# Altium integrated library SN74AVC4T245RSVR.IntLib: 1 symbol
Pins are listed as number, name and electrical type; pins without a type are passive.

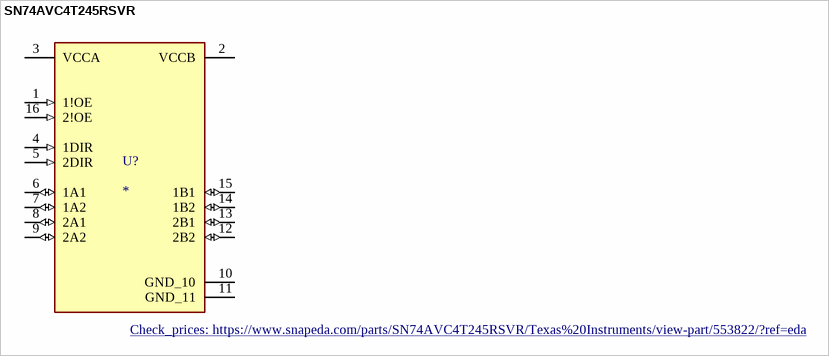
[diagram p0: symbol SN74AVC4T245RSVR]

## SN74AVC4T245RSVR
designator U?
4-Bit Dual-Supply Bus Transceiver with Configurable Voltage-Level Shifting and 3-State Outputs 16-UQFN -40 to 85; MF: Texas Instruments; MP: SN74AVC4T245RSVR; Purchase-URL: https://pricing.snapeda.com/search/part/SN74AVC4T245RSVR/?ref=eda; Price: None; SnapEDA_Link: https://www.snapeda.com/parts/SN74AVC4T245RSVR/Texas%20Instruments/view-part/553822/?ref=snap; Package: UQFN-16 Texas Instruments; Availability: Good; Value: *; Check_prices: https://www.snapeda.com/parts/SN74AVC4T245RSVR/Texas%20Instruments/view-part/553822/?ref=eda
footprint QFN40P260X180X55-16N
pins: 1 1!OE (in), 2 VCCB (power), 3 VCCA (power), 4 1DIR (in), 5 2DIR (in), 6 1A1 (io), 7 1A2 (io), 8 2A1 (io), 9 2A2 (io), 10 GND_10 (power), 11 GND_11 (power), 12 2B2 (io), 13 2B1 (io), 14 1B2 (io), 15 1B1 (io), 16 2!OE (in)